# Altium schematic symbol library kmilo17pet-LT_OpAmp_LT2000.SchLib: 1710 symbols (part 75 of 75)
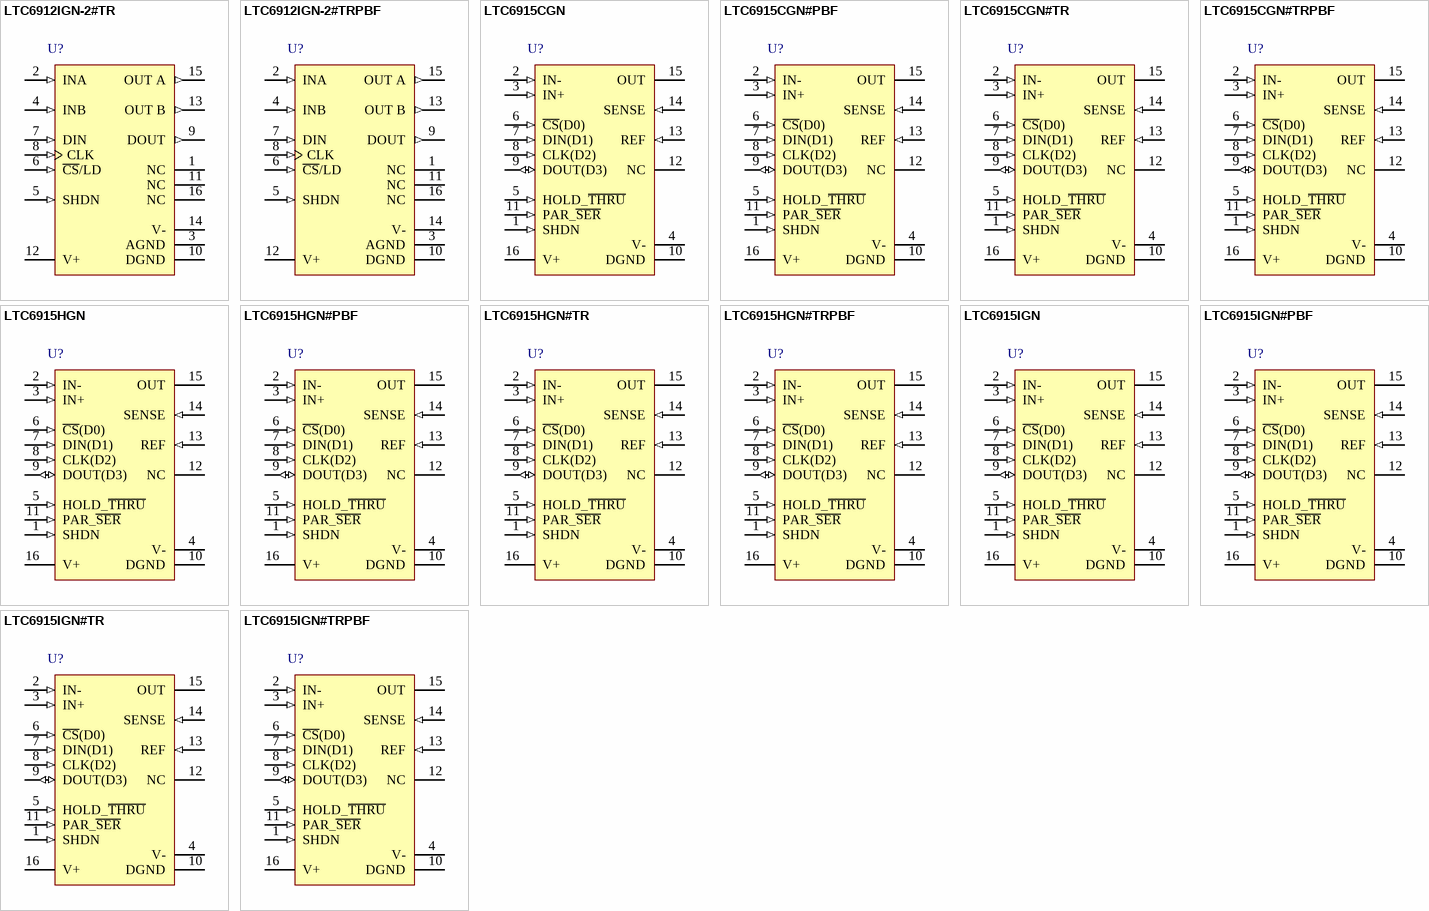
[diagram p154: symbols LTC6912IGN-2#TR to LTC6915IGN#TRPBF]

## LTC6915HGN#TR
designator U?
Single Channel, Zero Drift, Precision Instrumentation Amplifier with Digitally Programmable Gain, 0.2 MHz Typical GBW, 0.2 V/us Typical SR, 2.7 to 11 V, 16-Pin SOP (GN-16), High Temperature / Automotive, Reel; Linear Technology Part Number: LTC6915; Manufacturer: Linear Technology; PartNumber: LTC6915HGN#TR; Channels (#): 1; GBW (MHz) Typical: 0.2; Is (mA) Typical: 1.1; Vos (mV) Typical: 0.003; Vs Max (V): 11; Vs Min (V): 2.7; DatasheetVersion: Rev. B; PackageVersion: Rev B; PackageReference: LT-GN-16; PackageDescription: 16-Lead Plastic SSOP, Body 4.9 x 3.9 mm, Pitch 0.635 mm; Supplier 1: Digi-Key; Supplier Part Number 1: LTC6915HGN#TR-ND; Packing: Reel; SR (V/us) Typical: 0.2; Type: IA, ZD, PGA; Mounting Technology: Surface Mount; ComponentLink1Description: Manufacturer URL; ComponentLink1URL: http://www.linear.com/; ComponentLink2Description: Datasheet; ComponentLink2URL: http://cds.linear.com/docs/en/datasheet/6915fb.pdf; ComponentLink3Description: Package Specification; ComponentLink3URL: http://cds.linear.com/docs/en/packaging/05081641_B_GN16.pdf
footprint LT-GN-16_N (SOP, 16-Leads, Body 4.9x3.9mm, Pitch 0.635mm, IPC Medium Density)
footprint LT-GN-16_L (SOP, 16-Leads, Body 4.9x3.9mm, Pitch 0.635mm, IPC High Density)
footprint LT-GN-16_M (SOP, 16-Leads, Body 4.9x3.9mm, Pitch 0.635mm, IPC Low Density)
pins: 1 SHDN (in) "Shutdown Pin. The IC is shut down when SHDN is tied to V+. An internal current source pulls this pin to V- when floating.", 2 IN- (in) "Inverting Analog Input.", 3 IN+ (in) "Noninverting Analog Input.", 4 V- (power) "Negative Supply.", 5 HOLD_~{THRU} (in) "TTL Level Input for Parallel Control Mode. When HOLD_T\H\R\U\ is high, the parallel data is latched in an internal D-latch.", 6 ~{CS}(D0) (in) "TTL Level Input. When in serial control mode, this pin is the chip select input (active low); in parallel control mode, this pin is the LSB of the parallel gain control code.", 7 DIN(D1) (in) "TTL Level Input. When in serial control mode, this pin is the serial input data; in parallel mode, this pin is the second LSB of the parallel gain control code.", 8 CLK(D2) (in) "TTL Level Input. When in serial control mode, this pin is the clock of the serial interface; in parallel mode, this pin is the third LSB of the parallel gain control code.", 9 DOUT(D3) (io) "TTL Level Input. When in serial control mode, this pin is the output of the serial data; in parallel mode, this pin is the MSB of the 4-bit parallel gain control code.", 10 DGND (power) "Digital Ground.", 11 PAR_~{SER} (in) "Interface Selection Input. When tied to V+, the interface is in parallel mode, i.e., the PGA gain is defined by the parallel codes (D3 ~ D0), i.e., C\S\(D0), DATA(D1), CLK(D2), and DOUT(D3). When PARALLEL_S\E\R\I\A\L\ pin is (See Datasheet)", 12 NC "Not connected", 13 REF (in) "Voltage Reference for PGA output.", 14 SENSE (in) "Sense Pin. When the PGA drives a low resistance load and the interconnect resistance between the OUT pin and the load is not negligible, tying the SENSE pin as close as possible to the load can improve the gain accuracy.", 15 OUT (hiz) "Amplifier Output. The typical current sourcing/sinking of the OUT pin is 1mA. For minimum gain error, the load resistance should be 1k or greater (refer to the Output Voltage Swing vs Output Current and Gain Error vs Load (See Datasheet)", 16 V+ (power) "Positive Supply."

## LTC6915HGN#TRPBF
designator U?
Single Channel, Zero Drift, Precision Instrumentation Amplifier with Digitally Programmable Gain, 0.2 MHz Typical GBW, 0.2 V/us Typical SR, 2.7 to 11 V, 16-Pin SOP (GN-16), High Temperature / Automotive, Pb-Free, Reel; Linear Technology Part Number: LTC6915; Manufacturer: Linear Technology; PartNumber: LTC6915HGN#TRPBF; Channels (#): 1; GBW (MHz) Typical: 0.2; Is (mA) Typical: 1.1; Vos (mV) Typical: 0.003; Vs Max (V): 11; Vs Min (V): 2.7; DatasheetVersion: Rev. B; PackageVersion: Rev B; PackageReference: LT-GN-16; PackageDescription: 16-Lead Plastic SSOP, Body 4.9 x 3.9 mm, Pitch 0.635 mm; Supplier 1: Digi-Key; Supplier Part Number 1: LTC6915HGN#TRPBF-ND; Packing: Reel; RoHS: Pb-Free; SR (V/us) Typical: 0.2; Type: IA, ZD, PGA; Mounting Technology: Surface Mount; ComponentLink1Description: Manufacturer URL; ComponentLink1URL: http://www.linear.com/; ComponentLink2Description: Datasheet; ComponentLink2URL: http://cds.linear.com/docs/en/datasheet/6915fb.pdf; ComponentLink3Description: Package Specification; ComponentLink3URL: http://cds.linear.com/docs/en/packaging/05081641_B_GN16.pdf
footprint LT-GN-16_N (SOP, 16-Leads, Body 4.9x3.9mm, Pitch 0.635mm, IPC Medium Density)
footprint LT-GN-16_L (SOP, 16-Leads, Body 4.9x3.9mm, Pitch 0.635mm, IPC High Density)
footprint LT-GN-16_M (SOP, 16-Leads, Body 4.9x3.9mm, Pitch 0.635mm, IPC Low Density)
pins: 1 SHDN (in) "Shutdown Pin. The IC is shut down when SHDN is tied to V+. An internal current source pulls this pin to V- when floating.", 2 IN- (in) "Inverting Analog Input.", 3 IN+ (in) "Noninverting Analog Input.", 4 V- (power) "Negative Supply.", 5 HOLD_~{THRU} (in) "TTL Level Input for Parallel Control Mode. When HOLD_T\H\R\U\ is high, the parallel data is latched in an internal D-latch.", 6 ~{CS}(D0) (in) "TTL Level Input. When in serial control mode, this pin is the chip select input (active low); in parallel control mode, this pin is the LSB of the parallel gain control code.", 7 DIN(D1) (in) "TTL Level Input. When in serial control mode, this pin is the serial input data; in parallel mode, this pin is the second LSB of the parallel gain control code.", 8 CLK(D2) (in) "TTL Level Input. When in serial control mode, this pin is the clock of the serial interface; in parallel mode, this pin is the third LSB of the parallel gain control code.", 9 DOUT(D3) (io) "TTL Level Input. When in serial control mode, this pin is the output of the serial data; in parallel mode, this pin is the MSB of the 4-bit parallel gain control code.", 10 DGND (power) "Digital Ground.", 11 PAR_~{SER} (in) "Interface Selection Input. When tied to V+, the interface is in parallel mode, i.e., the PGA gain is defined by the parallel codes (D3 ~ D0), i.e., C\S\(D0), DATA(D1), CLK(D2), and DOUT(D3). When PARALLEL_S\E\R\I\A\L\ pin is (See Datasheet)", 12 NC "Not connected", 13 REF (in) "Voltage Reference for PGA output.", 14 SENSE (in) "Sense Pin. When the PGA drives a low resistance load and the interconnect resistance between the OUT pin and the load is not negligible, tying the SENSE pin as close as possible to the load can improve the gain accuracy.", 15 OUT (hiz) "Amplifier Output. The typical current sourcing/sinking of the OUT pin is 1mA. For minimum gain error, the load resistance should be 1k or greater (refer to the Output Voltage Swing vs Output Current and Gain Error vs Load (See Datasheet)", 16 V+ (power) "Positive Supply."

## LTC6915IGN
designator U?
Single Channel, Zero Drift, Precision Instrumentation Amplifier with Digitally Programmable Gain, 0.2 MHz Typical GBW, 0.2 V/us Typical SR, 2.7 to 11 V, 16-Pin SOP (GN-16), Industrial; Linear Technology Part Number: LTC6915; Manufacturer: Linear Technology; PartNumber: LTC6915IGN; Channels (#): 1; GBW (MHz) Typical: 0.2; Is (mA) Typical: 1.1; Vos (mV) Typical: 0.003; Vs Max (V): 11; Vs Min (V): 2.7; DatasheetVersion: Rev. B; PackageVersion: Rev B; PackageReference: LT-GN-16; PackageDescription: 16-Lead Plastic SSOP, Body 4.9 x 3.9 mm, Pitch 0.635 mm; Supplier 1: Digi-Key; Supplier Part Number 1: LTC6915IGN-ND; SR (V/us) Typical: 0.2; Type: IA, ZD, PGA; Mounting Technology: Surface Mount; ComponentLink1Description: Manufacturer URL; ComponentLink1URL: http://www.linear.com/; ComponentLink2Description: Datasheet; ComponentLink2URL: http://cds.linear.com/docs/en/datasheet/6915fb.pdf; ComponentLink3Description: Package Specification; ComponentLink3URL: http://cds.linear.com/docs/en/packaging/05081641_B_GN16.pdf
footprint LT-GN-16_N (SOP, 16-Leads, Body 4.9x3.9mm, Pitch 0.635mm, IPC Medium Density)
footprint LT-GN-16_L (SOP, 16-Leads, Body 4.9x3.9mm, Pitch 0.635mm, IPC High Density)
footprint LT-GN-16_M (SOP, 16-Leads, Body 4.9x3.9mm, Pitch 0.635mm, IPC Low Density)
pins: 1 SHDN (in) "Shutdown Pin. The IC is shut down when SHDN is tied to V+. An internal current source pulls this pin to V- when floating.", 2 IN- (in) "Inverting Analog Input.", 3 IN+ (in) "Noninverting Analog Input.", 4 V- (power) "Negative Supply.", 5 HOLD_~{THRU} (in) "TTL Level Input for Parallel Control Mode. When HOLD_T\H\R\U\ is high, the parallel data is latched in an internal D-latch.", 6 ~{CS}(D0) (in) "TTL Level Input. When in serial control mode, this pin is the chip select input (active low); in parallel control mode, this pin is the LSB of the parallel gain control code.", 7 DIN(D1) (in) "TTL Level Input. When in serial control mode, this pin is the serial input data; in parallel mode, this pin is the second LSB of the parallel gain control code.", 8 CLK(D2) (in) "TTL Level Input. When in serial control mode, this pin is the clock of the serial interface; in parallel mode, this pin is the third LSB of the parallel gain control code.", 9 DOUT(D3) (io) "TTL Level Input. When in serial control mode, this pin is the output of the serial data; in parallel mode, this pin is the MSB of the 4-bit parallel gain control code.", 10 DGND (power) "Digital Ground.", 11 PAR_~{SER} (in) "Interface Selection Input. When tied to V+, the interface is in parallel mode, i.e., the PGA gain is defined by the parallel codes (D3 ~ D0), i.e., C\S\(D0), DATA(D1), CLK(D2), and DOUT(D3). When PARALLEL_S\E\R\I\A\L\ pin is (See Datasheet)", 12 NC "Not connected", 13 REF (in) "Voltage Reference for PGA output.", 14 SENSE (in) "Sense Pin. When the PGA drives a low resistance load and the interconnect resistance between the OUT pin and the load is not negligible, tying the SENSE pin as close as possible to the load can improve the gain accuracy.", 15 OUT (hiz) "Amplifier Output. The typical current sourcing/sinking of the OUT pin is 1mA. For minimum gain error, the load resistance should be 1k or greater (refer to the Output Voltage Swing vs Output Current and Gain Error vs Load (See Datasheet)", 16 V+ (power) "Positive Supply."

## LTC6915IGN#PBF
designator U?
Single Channel, Zero Drift, Precision Instrumentation Amplifier with Digitally Programmable Gain, 0.2 MHz Typical GBW, 0.2 V/us Typical SR, 2.7 to 11 V, 16-Pin SOP (GN-16), Industrial, Pb-Free; Linear Technology Part Number: LTC6915; Manufacturer: Linear Technology; PartNumber: LTC6915IGN#PBF; Channels (#): 1; GBW (MHz) Typical: 0.2; Is (mA) Typical: 1.1; Vos (mV) Typical: 0.003; Vs Max (V): 11; Vs Min (V): 2.7; DatasheetVersion: Rev. B; PackageVersion: Rev B; PackageReference: LT-GN-16; PackageDescription: 16-Lead Plastic SSOP, Body 4.9 x 3.9 mm, Pitch 0.635 mm; Supplier 1: Digi-Key; Supplier Part Number 1: LTC6915IGN#PBF-ND; Supplier 2: Farnell; Supplier Part Number 2: 2356060; Supplier 3: Newark; Supplier Part Number 3: 57M0445; RoHS: Pb-Free; SR (V/us) Typical: 0.2; Type: IA, ZD, PGA; Mounting Technology: Surface Mount; ComponentLink1Description: Manufacturer URL; ComponentLink1URL: http://www.linear.com/; ComponentLink2Description: Datasheet; ComponentLink2URL: http://cds.linear.com/docs/en/datasheet/6915fb.pdf; ComponentLink3Description: Package Specification; ComponentLink3URL: http://cds.linear.com/docs/en/packaging/05081641_B_GN16.pdf
footprint LT-GN-16_N (SOP, 16-Leads, Body 4.9x3.9mm, Pitch 0.635mm, IPC Medium Density)
footprint LT-GN-16_L (SOP, 16-Leads, Body 4.9x3.9mm, Pitch 0.635mm, IPC High Density)
footprint LT-GN-16_M (SOP, 16-Leads, Body 4.9x3.9mm, Pitch 0.635mm, IPC Low Density)
pins: 1 SHDN (in) "Shutdown Pin. The IC is shut down when SHDN is tied to V+. An internal current source pulls this pin to V- when floating.", 2 IN- (in) "Inverting Analog Input.", 3 IN+ (in) "Noninverting Analog Input.", 4 V- (power) "Negative Supply.", 5 HOLD_~{THRU} (in) "TTL Level Input for Parallel Control Mode. When HOLD_T\H\R\U\ is high, the parallel data is latched in an internal D-latch.", 6 ~{CS}(D0) (in) "TTL Level Input. When in serial control mode, this pin is the chip select input (active low); in parallel control mode, this pin is the LSB of the parallel gain control code.", 7 DIN(D1) (in) "TTL Level Input. When in serial control mode, this pin is the serial input data; in parallel mode, this pin is the second LSB of the parallel gain control code.", 8 CLK(D2) (in) "TTL Level Input. When in serial control mode, this pin is the clock of the serial interface; in parallel mode, this pin is the third LSB of the parallel gain control code.", 9 DOUT(D3) (io) "TTL Level Input. When in serial control mode, this pin is the output of the serial data; in parallel mode, this pin is the MSB of the 4-bit parallel gain control code.", 10 DGND (power) "Digital Ground.", 11 PAR_~{SER} (in) "Interface Selection Input. When tied to V+, the interface is in parallel mode, i.e., the PGA gain is defined by the parallel codes (D3 ~ D0), i.e., C\S\(D0), DATA(D1), CLK(D2), and DOUT(D3). When PARALLEL_S\E\R\I\A\L\ pin is (See Datasheet)", 12 NC "Not connected", 13 REF (in) "Voltage Reference for PGA output.", 14 SENSE (in) "Sense Pin. When the PGA drives a low resistance load and the interconnect resistance between the OUT pin and the load is not negligible, tying the SENSE pin as close as possible to the load can improve the gain accuracy.", 15 OUT (hiz) "Amplifier Output. The typical current sourcing/sinking of the OUT pin is 1mA. For minimum gain error, the load resistance should be 1k or greater (refer to the Output Voltage Swing vs Output Current and Gain Error vs Load (See Datasheet)", 16 V+ (power) "Positive Supply."

## LTC6915IGN#TR
designator U?
Single Channel, Zero Drift, Precision Instrumentation Amplifier with Digitally Programmable Gain, 0.2 MHz Typical GBW, 0.2 V/us Typical SR, 2.7 to 11 V, 16-Pin SOP (GN-16), Industrial, Reel; Linear Technology Part Number: LTC6915; Manufacturer: Linear Technology; PartNumber: LTC6915IGN#TR; Channels (#): 1; GBW (MHz) Typical: 0.2; Is (mA) Typical: 1.1; Vos (mV) Typical: 0.003; Vs Max (V): 11; Vs Min (V): 2.7; DatasheetVersion: Rev. B; PackageVersion: Rev B; PackageReference: LT-GN-16; PackageDescription: 16-Lead Plastic SSOP, Body 4.9 x 3.9 mm, Pitch 0.635 mm; Supplier 1: Digi-Key; Supplier Part Number 1: LTC6915IGN#TR-ND; Packing: Reel; SR (V/us) Typical: 0.2; Type: IA, ZD, PGA; Mounting Technology: Surface Mount; ComponentLink1Description: Manufacturer URL; ComponentLink1URL: http://www.linear.com/; ComponentLink2Description: Datasheet; ComponentLink2URL: http://cds.linear.com/docs/en/datasheet/6915fb.pdf; ComponentLink3Description: Package Specification; ComponentLink3URL: http://cds.linear.com/docs/en/packaging/05081641_B_GN16.pdf
footprint LT-GN-16_N (SOP, 16-Leads, Body 4.9x3.9mm, Pitch 0.635mm, IPC Medium Density)
footprint LT-GN-16_L (SOP, 16-Leads, Body 4.9x3.9mm, Pitch 0.635mm, IPC High Density)
footprint LT-GN-16_M (SOP, 16-Leads, Body 4.9x3.9mm, Pitch 0.635mm, IPC Low Density)
pins: 1 SHDN (in) "Shutdown Pin. The IC is shut down when SHDN is tied to V+. An internal current source pulls this pin to V- when floating.", 2 IN- (in) "Inverting Analog Input.", 3 IN+ (in) "Noninverting Analog Input.", 4 V- (power) "Negative Supply.", 5 HOLD_~{THRU} (in) "TTL Level Input for Parallel Control Mode. When HOLD_T\H\R\U\ is high, the parallel data is latched in an internal D-latch.", 6 ~{CS}(D0) (in) "TTL Level Input. When in serial control mode, this pin is the chip select input (active low); in parallel control mode, this pin is the LSB of the parallel gain control code.", 7 DIN(D1) (in) "TTL Level Input. When in serial control mode, this pin is the serial input data; in parallel mode, this pin is the second LSB of the parallel gain control code.", 8 CLK(D2) (in) "TTL Level Input. When in serial control mode, this pin is the clock of the serial interface; in parallel mode, this pin is the third LSB of the parallel gain control code.", 9 DOUT(D3) (io) "TTL Level Input. When in serial control mode, this pin is the output of the serial data; in parallel mode, this pin is the MSB of the 4-bit parallel gain control code.", 10 DGND (power) "Digital Ground.", 11 PAR_~{SER} (in) "Interface Selection Input. When tied to V+, the interface is in parallel mode, i.e., the PGA gain is defined by the parallel codes (D3 ~ D0), i.e., C\S\(D0), DATA(D1), CLK(D2), and DOUT(D3). When PARALLEL_S\E\R\I\A\L\ pin is (See Datasheet)", 12 NC "Not connected", 13 REF (in) "Voltage Reference for PGA output.", 14 SENSE (in) "Sense Pin. When the PGA drives a low resistance load and the interconnect resistance between the OUT pin and the load is not negligible, tying the SENSE pin as close as possible to the load can improve the gain accuracy.", 15 OUT (hiz) "Amplifier Output. The typical current sourcing/sinking of the OUT pin is 1mA. For minimum gain error, the load resistance should be 1k or greater (refer to the Output Voltage Swing vs Output Current and Gain Error vs Load (See Datasheet)", 16 V+ (power) "Positive Supply."

## LTC6915IGN#TRPBF
designator U?
Single Channel, Zero Drift, Precision Instrumentation Amplifier with Digitally Programmable Gain, 0.2 MHz Typical GBW, 0.2 V/us Typical SR, 2.7 to 11 V, 16-Pin SOP (GN-16), Industrial, Pb-Free, Reel; Linear Technology Part Number: LTC6915; Manufacturer: Linear Technology; PartNumber: LTC6915IGN#TRPBF; Channels (#): 1; GBW (MHz) Typical: 0.2; Is (mA) Typical: 1.1; Vos (mV) Typical: 0.003; Vs Max (V): 11; Vs Min (V): 2.7; DatasheetVersion: Rev. B; PackageVersion: Rev B; PackageReference: LT-GN-16; PackageDescription: 16-Lead Plastic SSOP, Body 4.9 x 3.9 mm, Pitch 0.635 mm; Supplier 1: Digi-Key; Supplier Part Number 1: LTC6915IGN#TRPBF-ND; Packing: Reel; RoHS: Pb-Free; SR (V/us) Typical: 0.2; Type: IA, ZD, PGA; Mounting Technology: Surface Mount; ComponentLink1Description: Manufacturer URL; ComponentLink1URL: http://www.linear.com/; ComponentLink2Description: Datasheet; ComponentLink2URL: http://cds.linear.com/docs/en/datasheet/6915fb.pdf; ComponentLink3Description: Package Specification; ComponentLink3URL: http://cds.linear.com/docs/en/packaging/05081641_B_GN16.pdf
footprint LT-GN-16_N (SOP, 16-Leads, Body 4.9x3.9mm, Pitch 0.635mm, IPC Medium Density)
footprint LT-GN-16_L (SOP, 16-Leads, Body 4.9x3.9mm, Pitch 0.635mm, IPC High Density)
footprint LT-GN-16_M (SOP, 16-Leads, Body 4.9x3.9mm, Pitch 0.635mm, IPC Low Density)
pins: 1 SHDN (in) "Shutdown Pin. The IC is shut down when SHDN is tied to V+. An internal current source pulls this pin to V- when floating.", 2 IN- (in) "Inverting Analog Input.", 3 IN+ (in) "Noninverting Analog Input.", 4 V- (power) "Negative Supply.", 5 HOLD_~{THRU} (in) "TTL Level Input for Parallel Control Mode. When HOLD_T\H\R\U\ is high, the parallel data is latched in an internal D-latch.", 6 ~{CS}(D0) (in) "TTL Level Input. When in serial control mode, this pin is the chip select input (active low); in parallel control mode, this pin is the LSB of the parallel gain control code.", 7 DIN(D1) (in) "TTL Level Input. When in serial control mode, this pin is the serial input data; in parallel mode, this pin is the second LSB of the parallel gain control code.", 8 CLK(D2) (in) "TTL Level Input. When in serial control mode, this pin is the clock of the serial interface; in parallel mode, this pin is the third LSB of the parallel gain control code.", 9 DOUT(D3) (io) "TTL Level Input. When in serial control mode, this pin is the output of the serial data; in parallel mode, this pin is the MSB of the 4-bit parallel gain control code.", 10 DGND (power) "Digital Ground.", 11 PAR_~{SER} (in) "Interface Selection Input. When tied to V+, the interface is in parallel mode, i.e., the PGA gain is defined by the parallel codes (D3 ~ D0), i.e., C\S\(D0), DATA(D1), CLK(D2), and DOUT(D3). When PARALLEL_S\E\R\I\A\L\ pin is (See Datasheet)", 12 NC "Not connected", 13 REF (in) "Voltage Reference for PGA output.", 14 SENSE (in) "Sense Pin. When the PGA drives a low resistance load and the interconnect resistance between the OUT pin and the load is not negligible, tying the SENSE pin as close as possible to the load can improve the gain accuracy.", 15 OUT (hiz) "Amplifier Output. The typical current sourcing/sinking of the OUT pin is 1mA. For minimum gain error, the load resistance should be 1k or greater (refer to the Output Voltage Swing vs Output Current and Gain Error vs Load (See Datasheet)", 16 V+ (power) "Positive Supply."